# Altium schematic symbol library panasonic.SchLib: 1 symbol
Pins are listed as number, name and electrical type; pins without a type are passive.

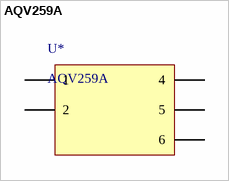
[diagram p0: symbol AQV259A]

## AQV259A
designator U*
footprint AQV259A
pins: 1, 2, 4, 5, 6